# EAGLE library part LT1370 (library group10)
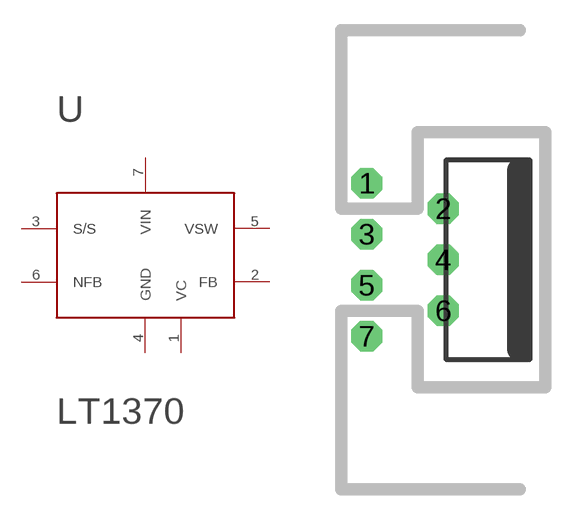
[diagram p0: symbol with the pads of TO220-7; footprint TO220-7]

Designator prefix -

## LT1370  [TO220-7]
1  VC
2  FB
3  S/S
4  GND
5  VSW
6  NFB
7  VIN

## Footprint TO220-7 (pad centres in mm)
drill 1.016 octagon: 1 -3.81,3.81; 2 0,2.54; 3 -3.81,1.27; 4 0,0; 5 -3.81,-1.27; 6 0,-2.54; 7 -3.81,-3.81